# Altium footprint library PcbLib1.PcbLib: 2 footprints
Each footprint in its own frame and in the unit in brackets; x right, y up, seen from the top. Pads: shape width x height; smd on the part's side, far side on the other; paste and mask are expansions set on the pad; w line width, h text height; cw(c..) or ccw(c..) is an arc to the next point about the centre after c.
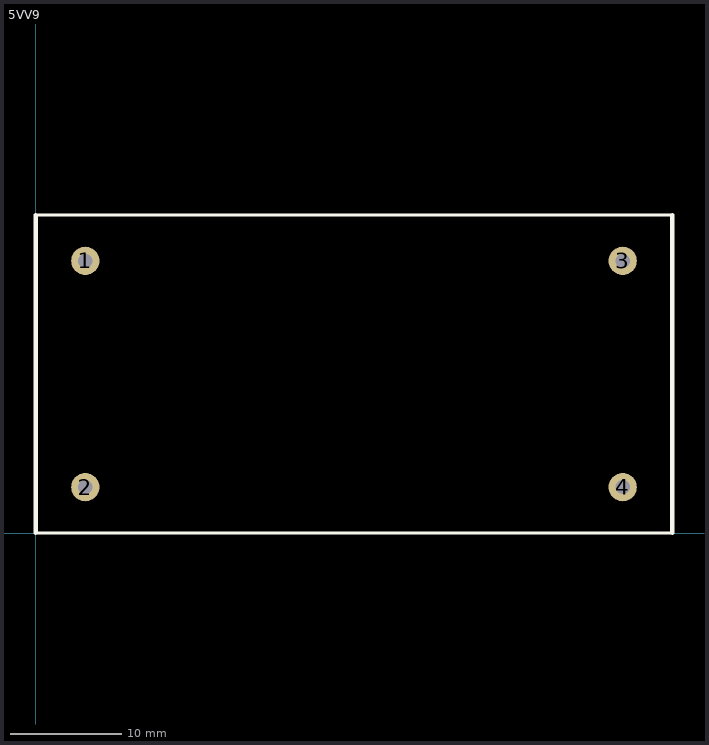
[diagram p0: the footprints below, top view; thin cyan lines are the x and y axes]

## 5VV9 [mil]
pads (4):
  round 100 hole 50: 1(175,962.5) 2(175,162.5) 3(2075,962.5) 4(2075,162.5)
Top Overlay:
  lines w10: 0,0 2250,0 ; 0,1125 2250,1125
  lines w15: 0,0 0,1125 ; 2250,0 2250,1125

## OC100HG [mil]